# EAGLE library part CD74HC4050XXX_NON-INV_BUFFER (library PiB)
CD74HC4050 Series Hex (Non-Inverting) Buffer
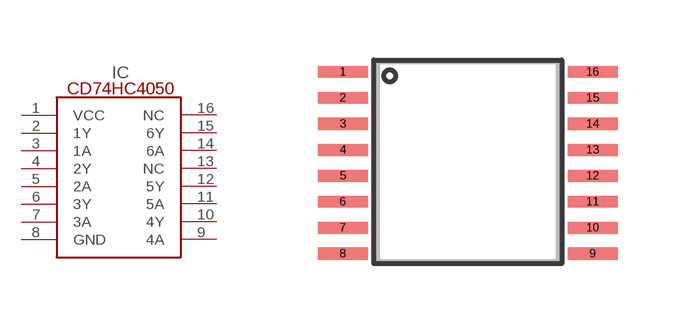
[diagram p11: symbol with the pads of TSSOP-16-HEXBUFF; footprint TSSOP-16-HEXBUFF]

Designator prefix IC

## CD74HC4050XXX_NON-INV_BUFFER_PWR (CREATOR: Kenmei; DATASHEET: http://www.ti.com/lit/ds/symlink/cd74hc4049.pdf; DIST: Digikey; DISTLINK: https://www.digikey.com/product-detail/en/texas-instruments/CD74HC4050PWR/296-9215-1-ND/376723; DISTPN: 296-9215-1-ND; MFR: Texas Instruments; MPN: CD74HC4050PWR; TESTED: NO)  [TSSOP-16-HEXBUFF]
1  VCC
2  1Y
3  1A
4  2Y
5  2A
6  3Y
7  3A
8  GND
9  4A
10  4Y
11  5A
12  5Y
13  NC
14  6A
15  6Y
16  NC

## Footprint TSSOP-16-HEXBUFF (pad centres in mm)
smd 1.25 x 0.3: 1 -2.875,2; 2 -2.875,1.35; 3 -2.875,0.7; 4 -2.875,0.05; 5 -2.875,-0.6; 6 -2.875,-1.25; 7 -2.875,-1.9; 8 -2.875,-2.55; 9 3.375,-2.55; 10 3.375,-1.9; 11 3.375,-1.25; 12 3.375,-0.6; 13 3.375,0.05; 14 3.375,0.7; 15 3.375,1.35; 16 3.375,2